# Altium integrated library Resistance.IntLib: 1 symbol
Pins are listed as number, name and electrical type; pins without a type are passive.

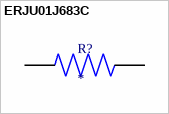
[diagram p0: symbol ERJU01J683C]

## ERJU01J683C
designator R?
MP: ERJU01J683C; Package: None; Price: None; Value: *; Availability: Unavailable
footprint RES_ERJU01J683C
pins: 1, 2